# EAGLE library part ATSAMR30M18A-I_RM100 (library SamacSys_Parts)
Microchip Technology, ATSAMR30M18A-I/RM1 Source: Datasheet <http://www.mouser.com/datasheet/2/268/70005384A-1532404.pdf>
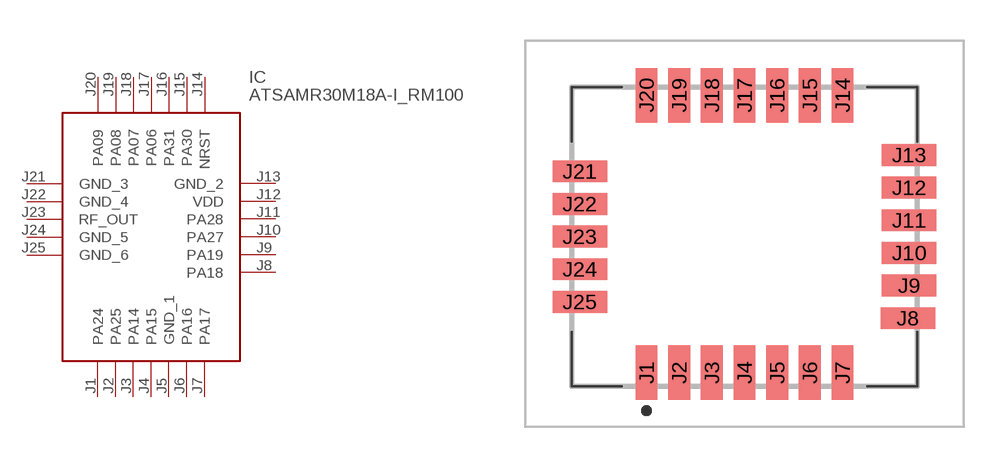
[diagram p10: symbol with the pads of ATSAMR30M18AIRM100; footprint ATSAMR30M18AIRM100]

Designator prefix IC

## ATSAMR30M18A-I_RM100 (DESCRIPTION: Microchip Technology, ATSAMR30M18A-I/RM1; HEIGHT: 2.1mm; MANUFACTURER_NAME: Microchip; MANUFACTURER_PART_NUMBER: ATSAMR30M18A-I/RM100; MOUSER_PART_NUMBER: 556-AMR30M18AIRM100; MOUSER_PRICE-STOCK: https://www.mouser.com/Search/Refine.aspx?Keyword=556-AMR30M18AIRM100; RS_PART_NUMBER: 1840450; RS_PRICE-STOCK: http://uk.rs-online.com/web/p/products/1840450)  [ATSAMR30M18AIRM100]
J1  PA24
J2  PA25
J3  PA14
J4  PA15
J5  GND_1
J6  PA16
J7  PA17
J8  PA18
J9  PA19
J10  PA27
J11  PA28
J12  VDD
J13  GND_2
J14  NRST
J15  PA30
J16  PA31
J17  PA06
J18  PA07
J19  PA08
J20  PA09
J21  GND_3
J22  GND_4
J23  RF_OUT
J24  GND_5
J25  GND_6

## Footprint ATSAMR30M18AIRM100 (pad centres in mm)
ATSAMR30M18A
smd 0.8 x 2: J1 -3.6,-5; J2 -2.4,-5; J3 -1.2,-5; J4 0,-5; J5 1.2,-5; J6 2.4,-5; J7 3.6,-5; J14 3.6,5.2; J15 2.4,5.2; J16 1.2,5.2; J17 0,5.2; J18 -1.2,5.2; J19 -2.4,5.2; J20 -3.6,5.2
smd 2 x 0.8: J8 6,-3; J9 6.05,-1.8; J10 6.05,-0.6; J11 6.05,0.6; J12 6.05,1.8; J13 6.05,3; J21 -6.05,2.4; J22 -6.05,1.2; J23 -6.05,0; J24 -6.05,-1.2; J25 -6.05,-2.4